# Altium schematic symbol library AD8495 Thermocouple Amp.Schlib: 1 symbol
Pins are listed as number, name and electrical type; pins without a type are passive.

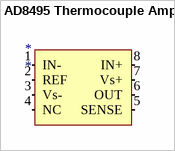
[diagram p0: symbol AD8495 Thermocouple Amp]

## AD8495 Thermocouple Amp
designator *
pins: 1 IN- (in), 2 REF (in), 3 Vs- (in), 4 NC (in), 5 SENSE (in), 6 OUT (in), 7 Vs+ (in), 8 IN+ (in)